# EAGLE library part LAN8720A (library everykey)
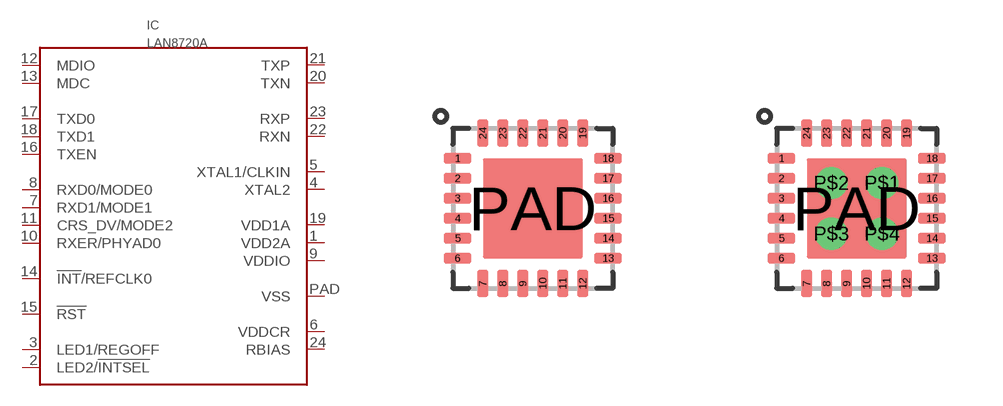
[diagram p42: symbol with the pads of QFN24-0.5-EP; footprints QFN24-0.5-EP, QFN24-0.5-EP-VIAS]

Designator prefix IC

## LAN8720AQFN  [QFN24-0.5-EP]
1  VDD2A
2  LED2/!INTSEL
3  LED1/REGOFF
4  XTAL2
5  XTAL1/CLKIN
6  VDDCR
7  RXD1/MODE1
8  RXD0/MODE0
9  VDDIO
10  RXER/PHYAD0
11  CRS_DV/MODE2
12  MDIO
13  MDC
14  !INT!/REFCLK0
15  !RST
16  TXEN
17  TXD0
18  TXD1
19  VDD1A
20  TXN
21  TXP
22  RXN
23  RXP
24  RBIAS
PAD  VSS

## LAN8720AVIAS  [QFN24-0.5-EP-VIAS]
1  VDD2A
2  LED2/!INTSEL
3  LED1/REGOFF
4  XTAL2
5  XTAL1/CLKIN
6  VDDCR
7  RXD1/MODE1
8  RXD0/MODE0
9  VDDIO
10  RXER/PHYAD0
11  CRS_DV/MODE2
12  MDIO
13  MDC
14  !INT!/REFCLK0
15  !RST
16  TXEN
17  TXD0
18  TXD1
19  VDD1A
20  TXN
21  TXP
22  RXN
23  RXP
24  RBIAS
P$1  VSS
P$2  VSS
P$3  VSS
P$4  VSS
PAD  VSS

## Footprint QFN24-0.5-EP (pad centres in mm)
QFN package, 0.5mm pitch
smd 0.69 x 0.28: 1 -1.883,1.25; 2 -1.883,0.75; 3 -1.883,0.25; 4 -1.883,-0.25; 5 -1.883,-0.75; 6 -1.883,-1.25; 13 1.883,-1.25; 14 1.883,-0.75; 15 1.883,-0.25; 16 1.883,0.25; 17 1.883,0.75; 18 1.883,1.25
smd 0.28 x 0.69: 7 -1.25,-1.883; 8 -0.75,-1.883; 9 -0.25,-1.883; 10 0.25,-1.883; 11 0.75,-1.883; 12 1.25,-1.883; 19 1.25,1.883; 20 0.75,1.883; 21 0.25,1.883; 22 -0.25,1.883; 23 -0.75,1.883; 24 -1.25,1.883
smd 2.5 x 2.5: PAD 0,0

## Footprint QFN24-0.5-EP-VIAS (pad centres in mm)
24 pin QFN package with exposed pad and four thermal vias
smd 0.69 x 0.28: 1 -1.883,1.25; 2 -1.883,0.75; 3 -1.883,0.25; 4 -1.883,-0.25; 5 -1.883,-0.75; 6 -1.883,-1.25; 13 1.883,-1.25; 14 1.883,-0.75; 15 1.883,-0.25; 16 1.883,0.25; 17 1.883,0.75; 18 1.883,1.25
smd 0.28 x 0.69: 7 -1.25,-1.883; 8 -0.75,-1.883; 9 -0.25,-1.883; 10 0.25,-1.883; 11 0.75,-1.883; 12 1.25,-1.883; 19 1.25,1.883; 20 0.75,1.883; 21 0.25,1.883; 22 -0.25,1.883; 23 -0.75,1.883; 24 -1.25,1.883
drill 0.3: P$1 0.635,0.635; P$2 -0.635,0.635; P$3 -0.635,-0.635; P$4 0.635,-0.635
smd 2.5 x 2.5: PAD 0,0